# EAGLE library part TSW-S-41 (library con-samtec-tsw)
HEADER
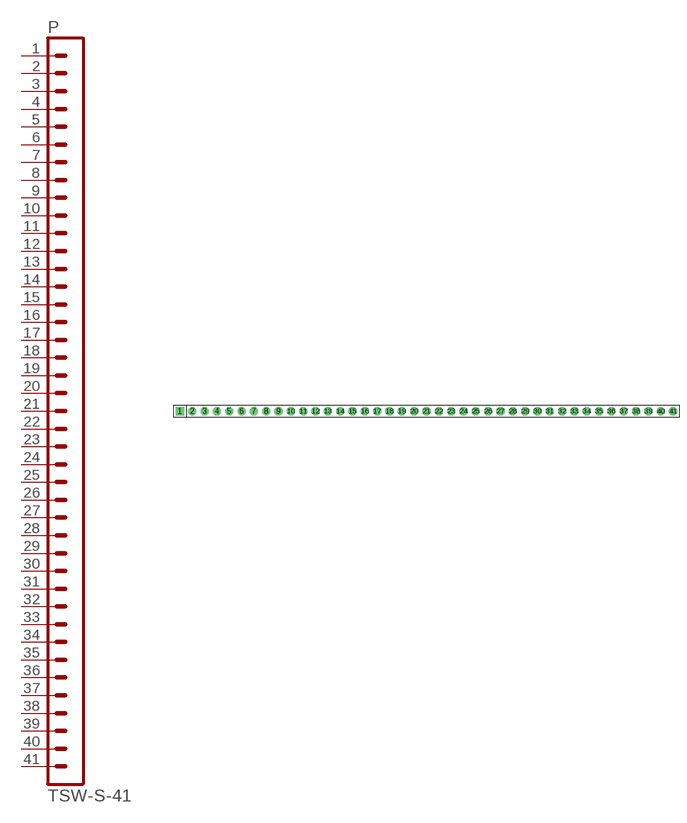
[diagram p35: symbol with the pads of TSW-S-41; footprint TSW-S-41]

Designator prefix P

## TSW-S-41  [TSW-S-41]
1  1  pas
2  2  pas
3  3  pas
4  4  pas
5  5  pas
6  6  pas
7  7  pas
8  8  pas
9  9  pas
10  10  pas
11  11  pas
12  12  pas
13  13  pas
14  14  pas
15  15  pas
16  16  pas
17  17  pas
18  18  pas
19  19  pas
20  20  pas
21  21  pas
22  22  pas
23  23  pas
24  24  pas
25  25  pas
26  26  pas
27  27  pas
28  28  pas
29  29  pas
30  30  pas
31  31  pas
32  32  pas
33  33  pas
34  34  pas
35  35  pas
36  36  pas
37  37  pas
38  38  pas
39  39  pas
40  40  pas
41  41  pas

## Footprint TSW-S-41 (pad centres in mm)
HEADER
drill 0.914 pad 1.676 square: 1 -50.8,0
drill 0.914 pad 1.676 octagon: 2 -48.26,0; 3 -45.72,0; 4 -43.18,0; 5 -40.64,0; 6 -38.1,0; 7 -35.56,0; 8 -33.02,0; 9 -30.48,0; 10 -27.94,0; 11 -25.4,0; 12 -22.86,0; 13 -20.32,0; 14 -17.78,0; 15 -15.24,0; 16 -12.7,0; 17 -10.16,0; 18 -7.62,0; 19 -5.08,0; 20 -2.54,0; 21 0,0; 22 2.54,0; 23 5.08,0; 24 7.62,0; 25 10.16,0; 26 12.7,0; 27 15.24,0; 28 17.78,0; 29 20.32,0; 30 22.86,0; 31 25.4,0; 32 27.94,0; 33 30.48,0; 34 33.02,0; 35 35.56,0; 36 38.1,0; 37 40.64,0; 38 43.18,0; 39 45.72,0; 40 48.26,0; 41 50.8,0